# Altium schematic symbol library 53261-0371.SchLib: 1 symbol
Pins are listed as number, name and electrical type; pins without a type are passive.

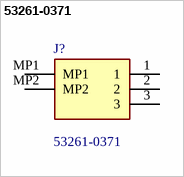
[diagram p0: symbol 53261-0371]

## 53261-0371
designator J?
1.25mm Pitch, PicoBlade PCB Header, Single Row, Right-Angle, Surface Mount, Tin (Sn) Plating, Friction Lock,  Circuits, Tape and Reel; Manufacturer_Name: Molex; Geometry.Height: 3.6mm; Mouser Part Number: 538-53261-0371; Mouser Price/Stock: https://www.mouser.co.uk/ProductDetail/Molex/53261-0371?qs=%252B72YyncTwW%252BTQBxAO1kJjA%3D%3D; Manufacturer_Part_Number: 53261-0371; Datasheet Link: *
footprint 532610371
pins: 1, 2, 3, MP1, MP2